# Altium footprint library RECOM_RLS-567.PcbLib: 1 footprints
Each footprint in its own frame and in the unit in brackets; x right, y up, seen from the top. Pads: shape width x height; smd on the part's side, far side on the other; paste and mask are expansions set on the pad; w line width, h text height; cw(c..) or ccw(c..) is an arc to the next point about the centre after c.
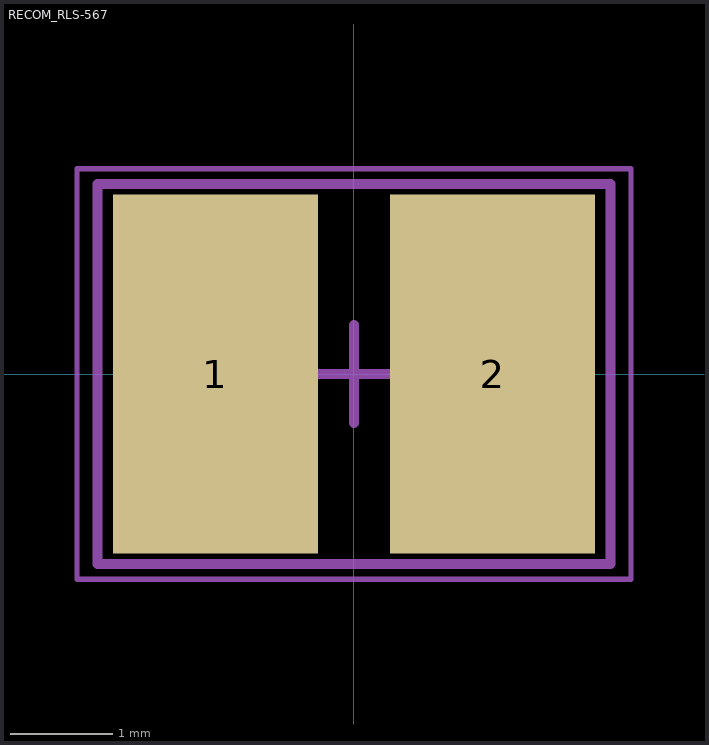
[diagram p0: the footprint, top view; thin cyan lines are the x and y axes]

## RECOM_RLS-567 [mm]
height 3.1
pads (2):
  rect 2x3.5 smd: 1(-1.35,0) 2(1.35,0)
Top 3D Body:
  lines w0.1: -2.5,-1.85 -2.5,1.85 2.5,1.85 2.5,-1.85 -2.5,-1.85
Top Courtyard (Mech15):
  lines w0.05: -2.7,-2 -2.7,2 2.7,2 2.7,-2 -2.7,-2
  lines w0.1: -0.475,0 0.475,0 ; 0,-0.475 0,0.475
3D body: height 3.1, standoff 0, extent -2.5,-1.85 2.5,1.85